# EAGLE library part AE-LCNV4-MOSFET (library FlukeNic)
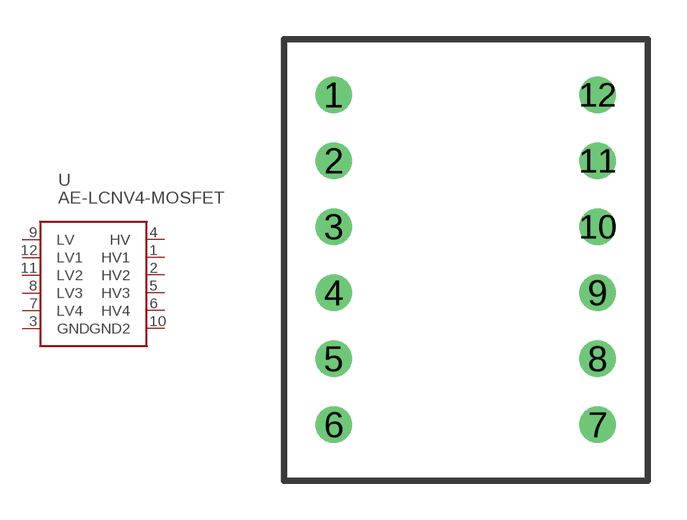
[diagram p7: symbol with the pads of AE-LCNV4-MOSFET; footprint AE-LCNV4-MOSFET]

Designator prefix U

## AE-LCNV4-MOSFET  [AE-LCNV4-MOSFET]
1  HV1
2  HV2
3  GND  pwr
4  HV  pwr
5  HV3
6  HV4
7  LV4
8  LV3
9  LV  pwr
10  GND2  pwr
11  LV2
12  LV1

## Footprint AE-LCNV4-MOSFET (pad centres in mm)
drill 0.9: 1 -5.08,6.35; 2 -5.08,3.81; 3 -5.08,1.27; 4 -5.08,-1.27; 5 -5.08,-3.81; 6 -5.08,-6.35; 7 5.08,-6.35; 8 5.08,-3.81; 9 5.08,-1.27; 10 5.08,1.27; 11 5.08,3.81; 12 5.08,6.35